# EAGLE library part LMZ22010 (library project)
10A SIMPLE SWITCHER® Power Module with 20V Maximum Input Voltage and sync input From the National Semiconductor Simple Switcher Series. Source: http://www.national.com/profile/snip.cgi/openDS=LMZ22010
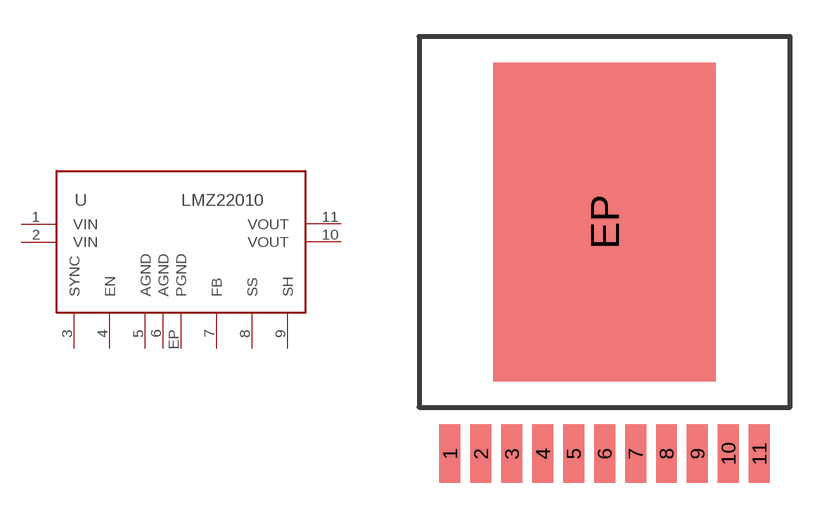
[diagram p13: symbol with the pads of TO-PMOD11; footprint TO-PMOD11]

Designator prefix U

## LMZ22010  [TO-PMOD11]
1  VIN  pwr
2  VIN  pwr
3  SYNC  in
4  EN  in
5  AGND  pwr
6  AGND  pwr
7  FB  in
8  SS
9  SH
10  VOUT  pas
11  VOUT  pas
EP  PGND  pwr

## Footprint TO-PMOD11 (pad centres in mm)
11-Lead TZA Package Source: http://www.national.com/profile/snip.cgi/openDS=LMZ22010
smd 0.86 x 2.41: 1 -6.35,-9.525; 2 -5.08,-9.525; 3 -3.81,-9.525; 4 -2.54,-9.525; 5 -1.27,-9.525; 6 0,-9.525; 7 1.27,-9.525; 8 2.54,-9.525; 9 3.81,-9.525; 10 5.08,-9.525; 11 6.35,-9.525
smd 9.126 x 13.107: EP 0,0